# EAGLE library part ESP-32S (library chip)
ESP32 Module
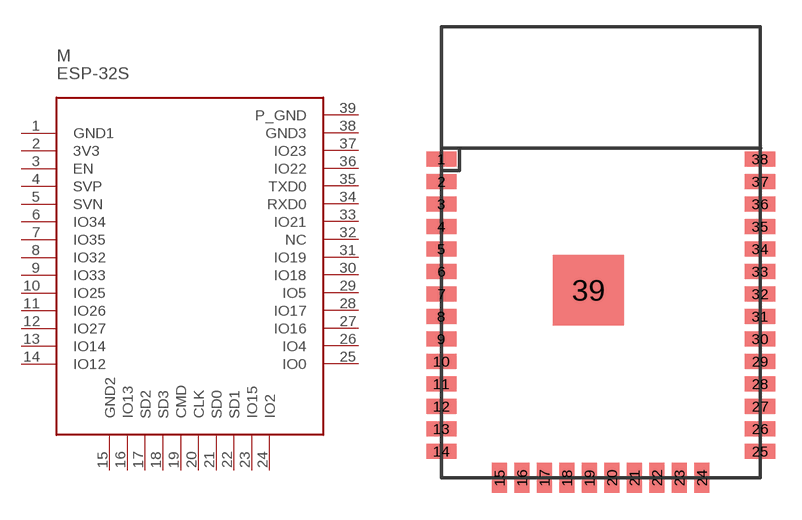
[diagram p0: symbol with the pads of ESP32; footprint ESP32]

Designator prefix M

## ESP-32S_ESP-WROOM-32  [ESP32]
1  GND1  pas
2  3V3  pwr
3  EN
4  SVP
5  SVN
6  IO34
7  IO35
8  IO32
9  IO33
10  IO25
11  IO26
12  IO27
13  IO14
14  IO12
15  GND2  hiz
16  IO13
17  SD2
18  SD3
19  CMD
20  CLK
21  SD0
22  SD1
23  IO15
24  IO2
25  IO0
26  IO4
27  IO16
28  IO17
29  IO5
30  IO18
31  IO19
32  NC  nc
33  IO21
34  RXD0
35  TXD0
36  IO22
37  IO23
38  GND3  hiz
39  P_GND  pas

## Footprint ESP32 (pad centres in mm)
smd 1.7 x 0.85: 1 0,16.51; 2 0,15.24; 3 0,13.97; 4 0,12.7; 5 0,11.43; 6 0,10.16; 7 0,8.89; 8 0,7.62; 9 0,6.35; 10 0,5.08; 11 0,3.81; 12 0,2.54; 13 0,1.27; 14 0,0; 25 18,0; 26 18,1.27; 27 18,2.54; 28 18,3.81; 29 18,5.08; 30 18,6.35; 31 18,7.62; 32 18,8.89; 33 18,10.16; 34 18,11.43; 35 18,12.7; 36 18,13.97; 37 18,15.24; 38 18,16.51
smd 0.85 x 1.7: 15 3.28,-1.5; 16 4.55,-1.5; 17 5.82,-1.5; 18 7.09,-1.5; 19 8.36,-1.5; 20 9.63,-1.5; 21 10.9,-1.5; 22 12.17,-1.5; 23 13.44,-1.5; 24 14.71,-1.5
smd 4 x 4: 39 8.3,9.1